# Altium schematic symbol library CMP-012-00000-1.Schlib: 1 symbol
Pins are listed as number, name and electrical type; pins without a type are passive.

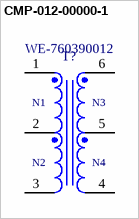
[diagram p0: symbol CMP-012-00000-1]

## CMP-012-00000-1
designator T?, comment WE-760390012
Datacom Transformer, GENERAL PURPOSE Application(s), 1: 1.1; Max DC Current: 150mA; Isolation Voltage: 2.5kV; Value: 475uH; Frequency: 10kHz; Min Operating Temperature: -40°C; RoHS Compliant: Yes; Max Operating Temperature: 125°C; Height - Seated (Max): 4.19mm; Series: WE-PP; Packaging: Tape and Reel; Package Quantity: 1; Height: 4.19mm; Mounting Technology: Surface Mount; Case/Package: SMD/SMT; Current Rating: 150mA; Width: 10.05mm; Length: 10.05mm; Termination: SMD/SMT
footprint WE-PPTI_1006_L10.2W6.73H4.19 (Push-Pull Transformer, SMT, body 7.14 x 6.73mm)
pins: 1, 2, 3, 4, 5, 6
text: N1; N3; N2; N4